# Altium footprint library SMTSO-440-4ET Conn.PcbLib: 1 footprints
Each footprint in its own frame and in the unit in brackets; x right, y up, seen from the top. Pads: shape width x height; smd on the part's side, far side on the other; paste and mask are expansions set on the pad; w line width, h text height; cw(c..) or ccw(c..) is an arc to the next point about the centre after c.
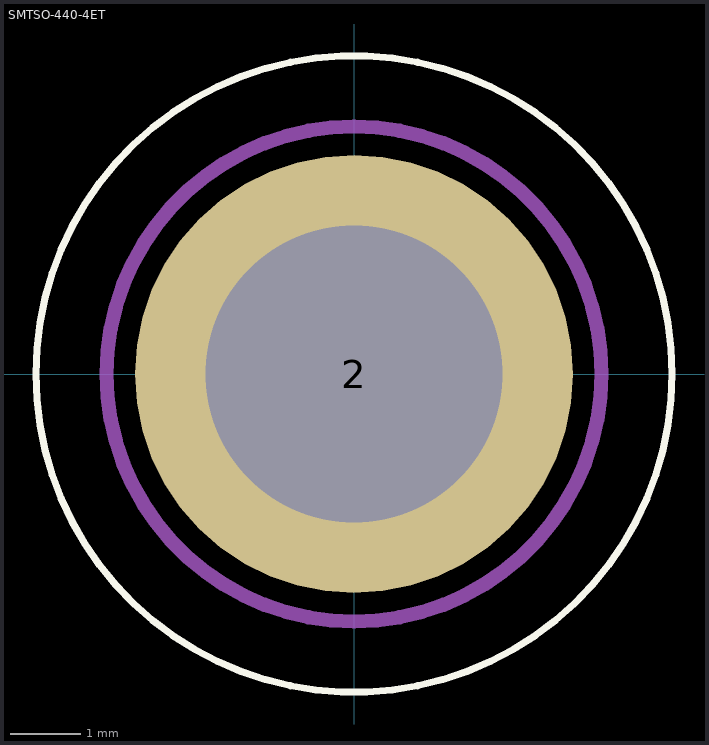
[diagram p0: the footprint, top view; thin cyan lines are the x and y axes]

## SMTSO-440-4ET [mil]
pads (1):
  round 244 / inner round 0 / far side round 0 hole 165.35 unplated: 2(0,0)
Top Overlay:
  lines w3.94: -177.17,0 ccw(c0,0) 177.17,0 ccw(c0,0) -177.17,0
Mechanical 13:
  circle w7.87: c0,0 r137.8
3D body: height 157.48, standoff 0, extent -110,-109.87 110,109.88
3D body: height 1.97, standoff -78.74, extent 0,0 0,0